# Altium schematic symbol library Connectors-EdgeBoard.SchLib: 2 symbols
Pins are listed as number, name and electrical type; pins without a type are passive.

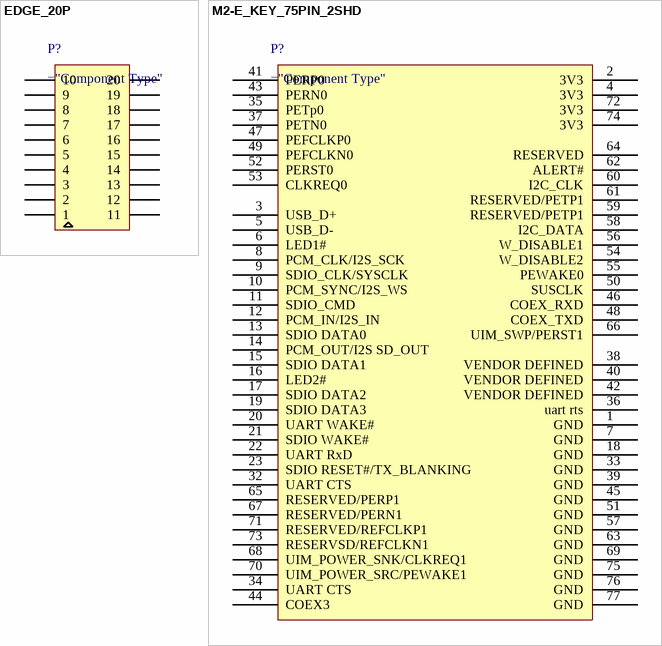
[diagram p0: symbols EDGE_20P to M2-E_KEY_75PIN_2SHD]

## EDGE_20P
designator P?
pins: 1, 2, 3, 4, 5, 6, 7, 8, 9, 10, 11, 12, 13, 14, 15, 16, 17, 18, 19, 20

## M2-E_KEY_75PIN_2SHD
designator P?
pins: 1 GND, 2 3V3, 3 USB_D+, 4 3V3, 5 USB_D-, 6 LED1#, 7 GND, 8 PCM_CLK/I2S_SCK, 9 SDIO_CLK/SYSCLK, 10 PCM_SYNC/I2S_WS, 11 SDIO_CMD, 12 PCM_IN/I2S_IN, 13 SDIO DATA0, 14 PCM_OUT/I2S SD_OUT, 15 SDIO DATA1, 16 LED2#, 17 SDIO DATA2, 18 GND, 19 SDIO DATA3, 20 UART WAKE#, 21 SDIO WAKE#, 22 UART RxD, 23 SDIO RESET#/TX_BLANKING, 32 UART CTS, 33 GND, 34 UART CTS, 35 PETp0, 36 uart rts, 37 PETN0, 38 VENDOR DEFINED, 39 GND, 40 VENDOR DEFINED, 41 PERP0, 42 VENDOR DEFINED, 43 PERN0, 44 COEX3, 45 GND, 46 COEX_RXD, 47 PEFCLKP0, 48 COEX_TXD, 49 PEFCLKN0, 50 SUSCLK, 51 GND, 52 PERST0, 53 CLKREQ0, 54 W_DISABLE2, 55 PEWAKE0, 56 W_DISABLE1, 57 GND, 58 I2C_DATA, 59 RESERVED/PETP1, 60 I2C_CLK, 61 RESERVED/PETP1, 62 ALERT#, 63 GND, 64 RESERVED, 65 RESERVED/PERP1, 66 UIM_SWP/PERST1, 67 RESERVED/PERN1, 68 UIM_POWER_SNK/CLKREQ1, 69 GND, 70 UIM_POWER_SRC/PEWAKE1, 71 RESERVED/REFCLKP1, 72 3V3, 73 RESERVSD/REFCLKN1, 74 3V3, 75 GND, 76 GND, 77 GND